# EAGLE library part AOZ1280 (library vreg-linear)
IC REG BUCK ADJ 1.2A SOT23-6
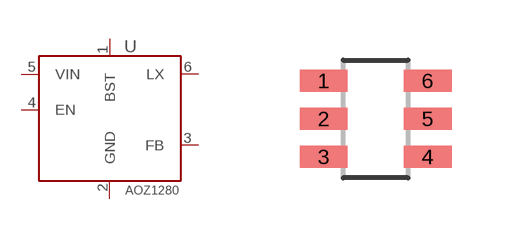
[diagram p9: symbol with the pads of SOT23-6; footprint SOT23-6]

Designator prefix U

## AOZ1280 (DIGIKEY: 785-1277-1-ND; MFR: Alpha & Omega; MPN: AOZ1280CI; P1I: o)  [SOT23-6]
1  BST
2  GND
3  FB
4  EN
5  VIN
6  LX

## Footprint SOT23-6 (pad centres in mm)
SOT-23 - DBV 0.95 mm pitch
smd 1.2 x 0.55: 1 -1.427,0.95; 2 -1.427,0; 3 -1.427,-0.95; 4 1.173,-0.95; 5 1.173,0; 6 1.173,0.95